# EAGLE library part EC-F82 (library radiotubes)
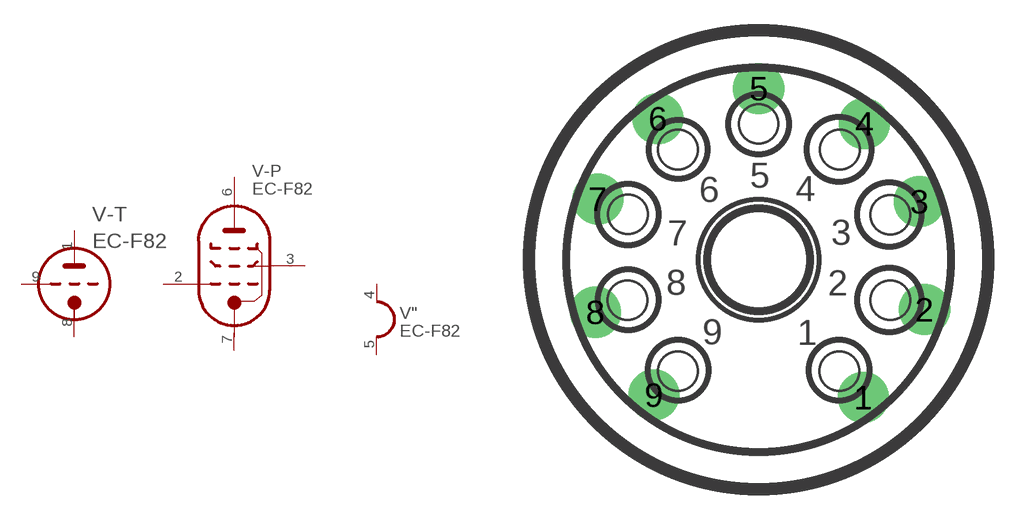
[diagram p38: symbol with the pads of NOVAL; footprint NOVAL]

Designator prefix V; gates -T=TRIODE -P=PENTODE "=HEATER_1

## EC-F82  [NOVAL]
1  -T:A  pas
2  -P:PG  pas
3  -P:PSG  pas
4  ":H1  pas
5  ":H2  pas
6  -P:PA  pas
7  -P:PK  pas
8  -T:K  pas
9  -T:G  pas

## Footprint NOVAL (pad centres in mm)
drill 1.422 pad 2.54: 1 5.207,-6.858; 2 8.254,-2.484; 3 8.004,2.893; 4 5.258,6.77; 5 0,8.524; 6 -5.004,7.024; 7 -8.004,3.02; 8 -8.127,-2.611; 9 -5.207,-6.731